# Altium schematic symbol library 0402 Capacitor.SchLib: 1 symbol
Pins are listed as number, name and electrical type; pins without a type are passive.

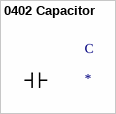
[diagram p0: symbol 0402 Capacitor]

## 0402 Capacitor
designator C
footprint 0402 Capacitor (Chip Capacitor, 2-Leads, Body 1.00x0.50mm, IPC Medium Density)
pins: 1, 2